# EAGLE library part UCC3911 (library jabinder)
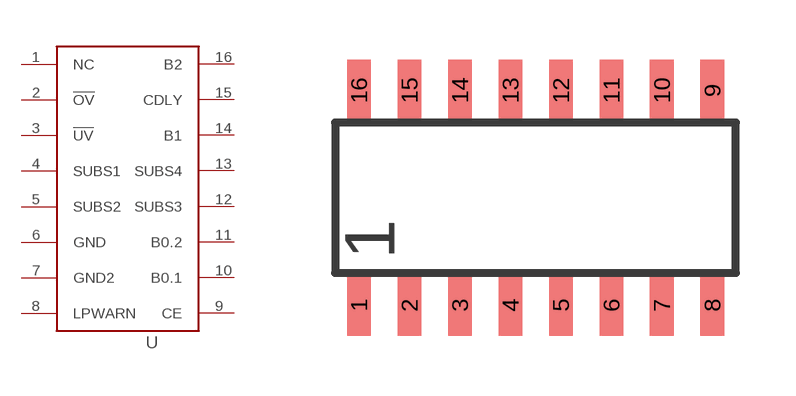
[diagram p1: symbol with the pads of SOIC-16; footprint SOIC-16]

Designator prefix -

## UCC3911  [SOIC-16]
1  NC
2  !OV
3  !UV
4  SUBS1
5  SUBS2
6  GND
7  GND2
8  LPWARN
9  CE
10  B0.1
11  B0.2
12  SUBS3
13  SUBS4
14  B1
15  CDLY
16  B2

## Footprint SOIC-16 (pad centres in mm)
smd 0.6 x 1.55: 1 -3.81,-2.7; 2 -2.54,-2.7; 3 -1.27,-2.7; 4 0,-2.7; 5 1.27,-2.7; 6 2.54,-2.7; 7 3.81,-2.7; 8 5.08,-2.7; 9 5.08,2.7; 10 3.81,2.7; 11 2.54,2.7; 12 1.27,2.7; 13 0,2.7; 14 -1.27,2.7; 15 -2.54,2.7; 16 -3.81,2.7